# EAGLE library part PMGD290XN (library dan-transistor)
PMGD290XN Dual N-channel µTrenchMOS? extremely low level FET VDS < 20 V ID < 0.86 A Ptot < 0.41 W RDSon < 0.35 ohms
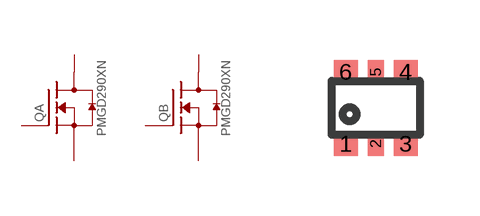
[diagram p0: symbol with the pads of SOT363; footprint SOT363]

Designator prefix Q; gates A=MOSFET-N-GDS-D B=MOSFET-N-GDS-D

## PMGD290XN  [SOT363]
1  A:S  pas
2  A:G  pas
3  B:D1  pas
4  B:S  pas
5  B:G  pas
6  A:D1  pas

## Footprint SOT363 (pad centres in mm)
SOT363 From http://www.nxp.com/documents/data_sheet/PMGD290XN.pdf
smd 0.6 x 0.6: 1 -0.75,-0.9; 3 0.75,-0.9; 4 0.75,0.9; 6 -0.75,0.9
smd 0.4 x 0.6: 2 0,-0.9; 5 0,0.9